# EAGLE library part MA13S (library con-amp-quick)
AMP QUICK CONNECTOR
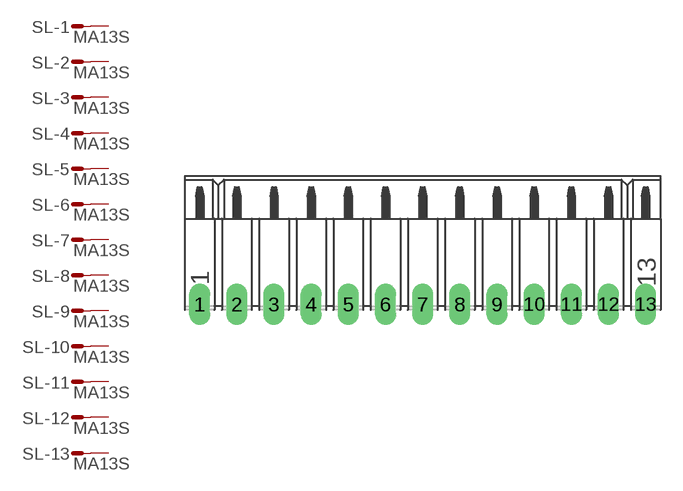
[diagram p40: symbol with the pads of 13PA; footprint 13PA]

Designator prefix SL; gates -1=M -2=M -3=M -4=M -5=M -6=M -7=M -8=M -9=M -10=M -11=M -12=M -13=M

## MA13S (OC_FARNELL: unknown; OC_NEWARK: unknown)  [13PA]
1  -1:S  pas
2  -2:S  pas
3  -3:S  pas
4  -4:S  pas
5  -5:S  pas
6  -6:S  pas
7  -7:S  pas
8  -8:S  pas
9  -9:S  pas
10  -10:S  pas
11  -11:S  pas
12  -12:S  pas
13  -13:S  pas

## Footprint 13PA (pad centres in mm)
AMP QUICK CONNECTOR
drill 0.914 long: 1 -15.24,0; 2 -12.7,0; 3 -10.16,0; 4 -7.62,0; 5 -5.08,0; 6 -2.54,0; 7 0,0; 8 2.54,0; 9 5.08,0; 10 7.62,0; 11 10.16,0; 12 12.7,0; 13 15.24,0